# Altium footprint library VS30CDU06HM3I.PcbLib: 1 footprints
Each footprint in its own frame and in the unit in brackets; x right, y up, seen from the top. Pads: shape width x height; smd on the part's side, far side on the other; paste and mask are expansions set on the pad; w line width, h text height; cw(c..) or ccw(c..) is an arc to the next point about the centre after c.
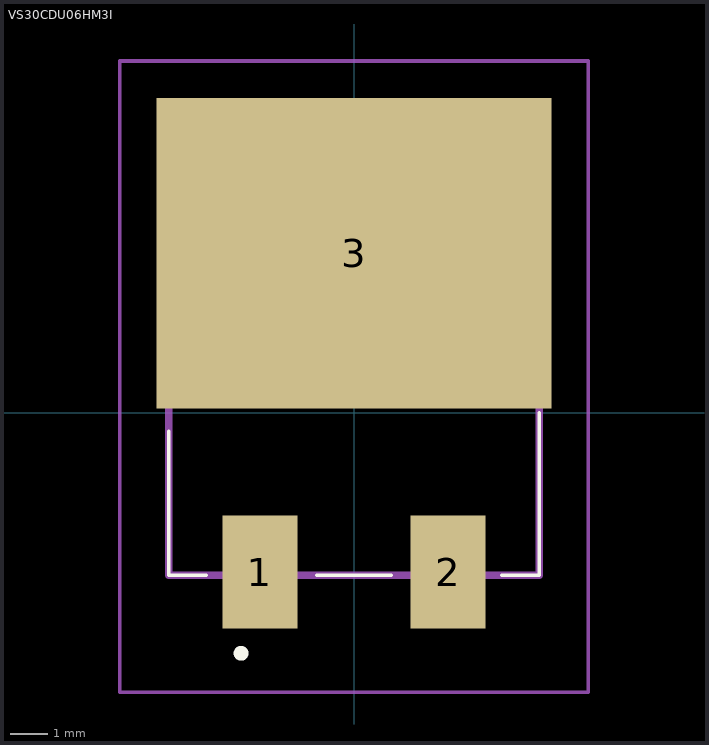
[diagram p0: the footprint, top view; thin cyan lines are the x and y axes]

## VS30CDU06HM3I [mm]
pads (3):
  rect 2.03x3.05 smd: 1(-2.54,-4.308) 2(2.54,-4.308)
  rect 10.66x8.38 smd: 3(0,4.308)
Top Overlay:
  lines w0.1: -5,-0.5 -5,-4.395 -4,-4.395 ; -1,-4.395 1,-4.395 ; 4,-4.395 5,-4.395 5,0
  lines w0.3: -3.1,-6.5 cw(c-3.05,-6.5) -3,-6.5 ; -3.1,-6.5 -3.1,-6.5 ; -3.1,-6.5 ccw(c-3.05,-6.5) -3,-6.5 ; -3,-6.5 -3,-6.5
Mechanical 15:
  lines w0.2: -5,-4.395 5,-4.395 5,4.395 -5,4.395 -5,-4.395
Mechanical 20:
  lines w0.1: -6.33,-7.55 6.33,-7.55 6.33,9.498 -6.33,9.498 -6.33,-7.55